# EAGLE library part MODULE_MPU9250 (library SobieskiSat2)
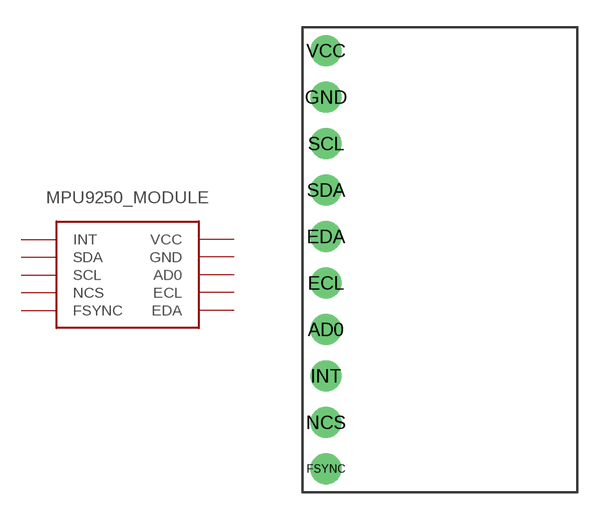
[diagram p3: symbol with the pads of MODULE_MPU9250; footprint MODULE_MPU9250]

Designator prefix -

## MODULE_MPU9250  [MODULE_MPU9250]
AD0  AD0
ECL  ECL
EDA  EDA
FSYNC  FSYNC
GND  GND
INT  INT
NCS  NCS
SCL  SCL
SDA  SDA
VCC  VCC

## Footprint MODULE_MPU9250 (pad centres in mm)
drill 1.016 pad 1.676: AD0 -6.73,-3.81; ECL -6.73,-1.27; EDA -6.73,1.27; FSYNC -6.73,-11.43; GND -6.73,8.89; INT -6.73,-6.35; NCS -6.73,-8.89; SCL -6.73,6.35; SDA -6.73,3.81; VCC -6.73,11.43